# EAGLE library part AD8132 (library CPSBoard)
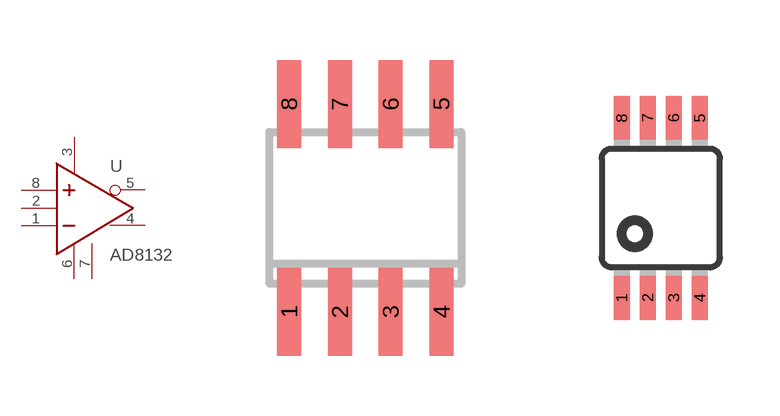
[diagram p6: symbol with the pads of SOIC8; footprints SOIC8, MSOP8]

Designator prefix -

## AD8132SOIC8  [SOIC8]
1  -IN  in
2  V_OCM  in
3  V_S+  sup
4  +OUT  out
5  -OUT  out
6  V_S-  sup
7  PD  in
8  +IN  in

## AD8132MSOP8  [MSOP8]
Pads as for SOIC8

## Footprint SOIC8 (pad centres in mm)
smd 0.6 x 2.2: 1 -1.905,-2.6; 2 -0.635,-2.6; 3 0.635,-2.6; 4 1.905,-2.6; 5 1.905,2.6; 6 0.635,2.6; 7 -0.635,2.6; 8 -1.905,2.6

## Footprint MSOP8 (pad centres in mm)
8M, 8-Lead, 0.118" Wide, Miniature Small Outline Package MSOP 8M-Package doc1097.pdf
smd 0.4 x 1.1: 1 -0.975,-2.25; 2 -0.325,-2.25; 3 0.325,-2.25; 4 0.975,-2.25; 5 0.975,2.25; 6 0.325,2.25; 7 -0.325,2.25; 8 -0.975,2.25